# Altium footprint library footprints.PCBLIB: 194 footprints (part 11 of 13)
Each footprint in its own frame and in the unit in brackets; x right, y up, seen from the top. Pads: shape width x height; smd on the part's side, far side on the other; paste and mask are expansions set on the pad; w line width, h text height; cw(c..) or ccw(c..) is an arc to the next point about the centre after c.
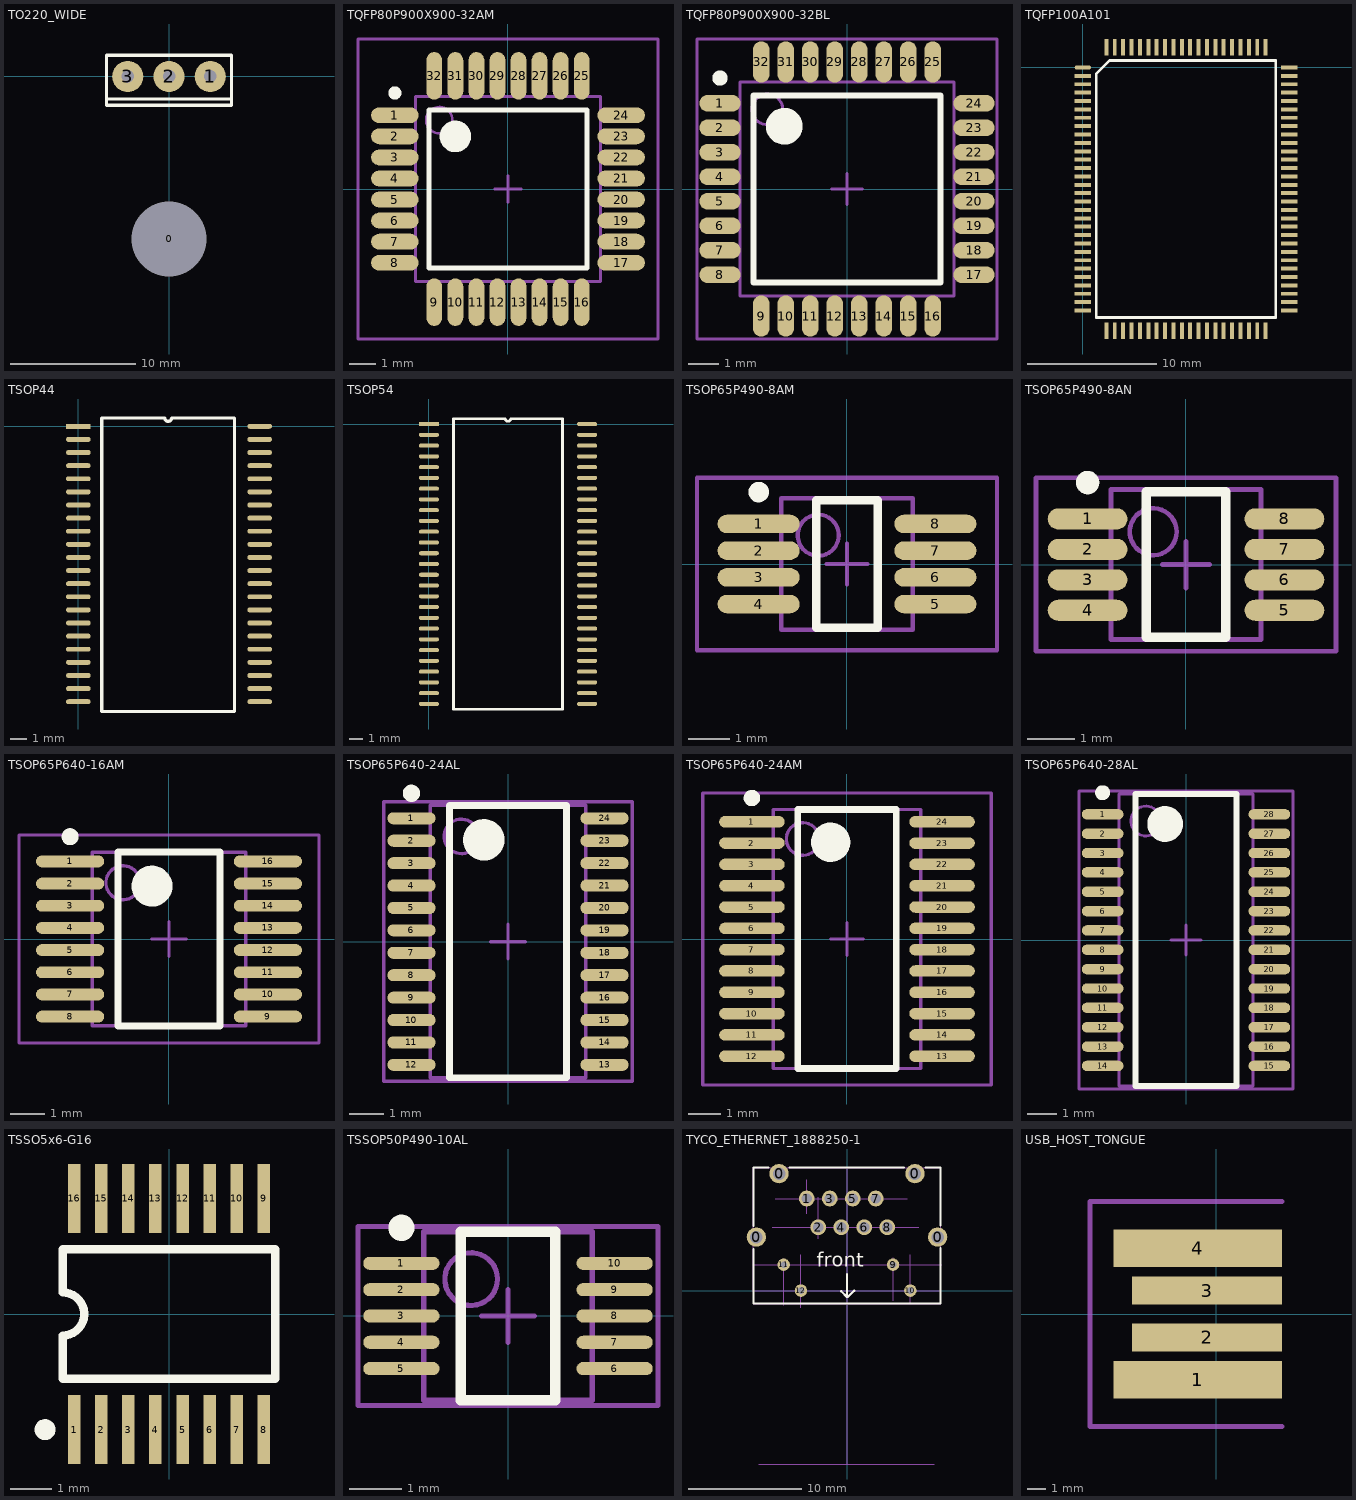
[diagram p10: the footprints below, top view; thin cyan lines are the x and y axes]

## TO220_WIDE [mm]
pads (4):
  round 1 hole 6: 0(0,-13)
  round 2.5 hole 1: 1(3.3,0) 2(0,0) 3(-3.3,0)
Top Overlay:
  lines w0.254: -5,1.7 5,1.7 5,-1.8 ; -5,1.7 -5,-1.8 5,-1.8 ; -5,1.7 -5,-2.3 5,-2.3 5,-1.8
Bottom Overlay:
  circle w0.254: c0,-13 r4.243
  lines w1: -6,-21 6,-21 6,3 -6,3 -6,-21

## TQFP80P900X900-32AM [mm] "Thin QFP, 32-Leads, Body 7x7mm, Pitch 0.8mm, IPC Low Density"
height 1.6
pads (32):
  oval 1.8x0.6 smd: 1(-4.3,2.8) 2(-4.3,2) 3(-4.3,1.2) 4(-4.3,0.4) 5(-4.3,-0.4) 6(-4.3,-1.2) 7(-4.3,-2) 8(-4.3,-2.8) 17(4.3,-2.8) 18(4.3,-2) 19(4.3,-1.2) 20(4.3,-0.4) 21(4.3,0.4) 22(4.3,1.2) 23(4.3,2) 24(4.3,2.8)
  oval 0.6x1.8 smd: 9(-2.8,-4.3) 10(-2,-4.3) 11(-1.2,-4.3) 12(-0.4,-4.3) 13(0.4,-4.3) 14(1.2,-4.3) 15(2,-4.3) 16(2.8,-4.3) 25(2.8,4.3) 26(2,4.3) 27(1.2,4.3) 28(0.4,4.3) 29(-0.4,4.3) 30(-1.2,4.3) 31(-2,4.3) 32(-2.8,4.3)
Top Overlay:
  circle w0.25: c-4.3,3.65 r0.125
  circle w0.6: c-2,2 r0.3
  lines w0.2: -3,-3 -3,3 3,3 3,-3 -3,-3
Mechanical 13:
  circle w0.1: c-2.615,2.615 r0.5
  lines w0.1: -3.515,-3.515 -3.515,3.515 3.515,3.515 3.515,-3.515 -3.515,-3.515
Mechanical 15:
  lines w0.1: -0.5,0 0.5,0 ; 0,-0.5 0,0.5 ; -5.7,-5.7 -5.7,5.7 5.7,5.7 5.7,-5.7 -5.7,-5.7
3D body: height 1.6, standoff 0, extent -3.515,-3.515 3.515,3.515

## TQFP80P900X900-32BL [mm] "Thin QFP, 32-Leads, Body 7x7mm, Pitch 0.8mm, IPC High Density"
height 1.2
pads (32):
  oval 1.35x0.55 smd: 1(-4.15,2.8) 2(-4.15,2) 3(-4.15,1.2) 4(-4.15,0.4) 5(-4.15,-0.4) 6(-4.15,-1.2) 7(-4.15,-2) 8(-4.15,-2.8) 17(4.15,-2.8) 18(4.15,-2) 19(4.15,-1.2) 20(4.15,-0.4) 21(4.15,0.4) 22(4.15,1.2) 23(4.15,2) 24(4.15,2.8)
  oval 0.55x1.35 smd: 9(-2.8,-4.15) 10(-2,-4.15) 11(-1.2,-4.15) 12(-0.4,-4.15) 13(0.4,-4.15) 14(1.2,-4.15) 15(2,-4.15) 16(2.8,-4.15) 25(2.8,4.15) 26(2,4.15) 27(1.2,4.15) 28(0.4,4.15) 29(-0.4,4.15) 30(-1.2,4.15) 31(-2,4.15) 32(-2.8,4.15)
Top Overlay:
  circle w0.6: c-2.05,2.05 r0.3
  circle w0.25: c-4.15,3.625 r0.125
  lines w0.2: -3.05,-3.05 3.05,-3.05 3.05,3.05 -3.05,3.05 -3.05,-3.05
Mechanical 13:
  circle w0.1: c-2.6,2.6 r0.5
  lines w0.1: -3.5,-3.5 3.5,-3.5 3.5,3.5 -3.5,3.5 -3.5,-3.5
Mechanical 15:
  lines w0.1: -0.5,0 0.5,0 ; 0,-0.5 0,0.5 ; -4.9,-4.9 4.9,-4.9 4.9,4.9 -4.9,4.9 -4.9,-4.9
3D body: height 1.2, standoff 0, extent -3.5,-3.5 3.5,3.5

## TQFP100A101 [mil]
pads (100):
  oval 50x12 smd: 1(0,0)
  rect 50x12 smd: 2(0,-25.59) 3(0,-51.18) 4(0,-76.77) 5(0,-102.36) 6(0,-127.95) 7(0,-153.54) 8(0,-179.13) 9(0,-204.72) 10(0,-230.32) 11(0,-255.91) 12(0,-281.5) 13(0,-307.09) 14(0,-332.68) 15(0,-358.27) 16(0,-383.86) 17(0,-409.45) 18(0,-435.04) 19(0,-460.63) 20(0,-486.22) 21(0,-511.81) 22(0,-537.4) 23(0,-562.99) 24(0,-588.58) 25(0,-614.17) 26(0,-639.76) 27(0,-665.36) 28(0,-690.95) 29(0,-716.54) 30(0,-742.13) 51(629.92,-742.13) 52(629.92,-716.54) 53(629.92,-690.95) 54(629.92,-665.36) 55(629.92,-639.76) 56(629.92,-614.17) 57(629.92,-588.58) 58(629.92,-562.99) 59(629.92,-537.4) 60(629.92,-511.81) 61(629.92,-486.22) 62(629.92,-460.63) 63(629.92,-435.04) 64(629.92,-409.45) 65(629.92,-383.86) 66(629.92,-358.27) 67(629.92,-332.68) 68(629.92,-307.09) 69(629.92,-281.5) 70(629.92,-255.91) 71(629.92,-230.32) 72(629.92,-204.72) 73(629.86,-178.61) 74(629.92,-153.54) 75(629.92,-127.95) 76(629.92,-102.36) 77(629.92,-76.77) 78(629.92,-51.18) 79(629.92,-25.59) 80(629.92,0)
  rect 12x50 smd: 31(71.85,-804.14) 32(97.44,-804.14) 33(123.03,-804.14) 34(148.62,-804.14) 35(174.21,-804.14) 36(199.8,-804.14) 37(225.39,-804.14) 38(250.98,-804.14) 39(276.58,-804.14) 40(302.17,-804.14) 41(327.76,-804.14) 42(353.35,-804.14) 43(378.94,-804.14) 44(404.53,-804.14) 45(430.12,-804.14) 46(455.71,-804.14) 47(481.3,-804.14) 48(506.89,-804.14) 49(532.48,-804.14) 50(558.07,-804.14) 81(558.07,62.01) 82(532.48,62.01) 83(506.89,62.01) 84(481.3,62.01) 85(455.71,62.01) 86(430.12,62.01) 87(404.53,62.01) 88(378.94,62.01) 89(353.35,62.01) 90(327.76,62.01) 91(302.17,62.01) 92(276.58,62.01) 93(250.98,62.01) 94(225.39,62.01) 95(199.8,62.01) 96(174.21,62.01) 97(148.62,62.01) 98(123.03,62.01) 99(97.44,62.01) 100(71.85,62.01)
Top Overlay:
  lines w7.87: 40.75,-763.39 589.17,-763.39 589.17,21.26 81.5,21.26 40.75,-19.49 40.75,-763.39

## TSOP44 [mm]
pads (44):
  rect 1.5x0.3 smd: 1(0,0)
  oval 1.5x0.3 smd: 2(0,-0.8) 3(0,-1.6) 4(0,-2.4) 5(0,-3.2) 6(0,-4) 7(0,-4.8) 8(0,-5.6) 9(0,-6.4) 10(0,-7.2) 11(0,-8) 12(0,-8.8) 13(0,-9.6) 14(0,-10.4) 15(0,-11.2) 16(0,-12) 17(0,-12.8) 18(0,-13.6) 19(0,-14.4) 20(0,-15.2) 21(0,-16) 22(0,-16.8) 23(11.06,-16.8) 24(11.06,-16) 25(11.06,-15.2) 26(11.06,-14.4) 27(11.06,-13.6) 28(11.06,-12.8) 29(11.06,-12) 30(11.06,-11.2) 31(11.06,-10.4) 32(11.06,-9.6) 33(11.06,-8.8) 34(11.06,-8) 35(11.06,-7.2) 36(11.06,-6.4) 37(11.06,-5.6) 38(11.06,-4.8) 39(11.06,-4) 40(11.06,-3.2) 41(11.06,-2.4) 42(11.06,-1.6) 43(11.06,-0.8) 44(11.06,0)
Top Overlay:
  lines w0.2: 1.435,-17.4 9.525,-17.4 9.525,0.5 5.68,0.5 cw(c5.48,0.5) 5.28,0.5 1.435,0.5 1.435,-17.4

## TSOP54 [mm]
pads (54):
  rect 1.5x0.3 smd: 1(0,0)
  oval 1.5x0.3 smd: 2(0,-0.8) 3(0,-1.6) 4(0,-2.4) 5(0,-3.2) 6(0,-4) 7(0,-4.8) 8(0,-5.6) 9(0,-6.4) 10(0,-7.2) 11(0,-8) 12(0,-8.8) 13(0,-9.6) 14(0,-10.4) 15(0,-11.2) 16(0,-12) 17(0,-12.8) 18(0,-13.6) 19(0,-14.4) 20(0,-15.2) 21(0,-16) 22(0,-16.8) 23(0,-17.6) 24(0,-18.4) 25(0,-19.2) 26(0,-20) 27(0,-20.8) 28(11.76,-20.8) 29(11.76,-20) 30(11.76,-19.2) 31(11.76,-18.4) 32(11.76,-17.6) 33(11.76,-16.8) 34(11.76,-16) 35(11.76,-15.2) 36(11.76,-14.4) 37(11.76,-13.6) 38(11.76,-12.8) 39(11.76,-12) 40(11.76,-11.2) 41(11.76,-10.4) 42(11.76,-9.6) 43(11.76,-8.8) 44(11.76,-8) 45(11.76,-7.2) 46(11.76,-6.4) 47(11.76,-5.6) 48(11.76,-4.8) 49(11.76,-4) 50(11.76,-3.2) 51(11.76,-2.4) 52(11.76,-1.6) 53(11.76,-0.8) 54(11.76,0)
Top Overlay:
  lines w0.2: 1.835,-21.2 1.835,0.4 5.68,0.4 ccw(c5.88,0.4) 6.08,0.4 9.925,0.4 9.925,-21.2 1.835,-21.2

## TSOP65P490-8AM [mm] "TSOP, 8-Leads, Body 3x3mm, Pitch 0.65mm, IPC Low Density"
height 1.1
pads (8):
  oval 2x0.45 smd: 1(-2.15,0.975) 2(-2.15,0.325) 3(-2.15,-0.325) 4(-2.15,-0.975) 5(2.15,-0.975) 6(2.15,-0.325) 7(2.15,0.325) 8(2.15,0.975)
Top Overlay:
  circle w0.25: c-2.15,1.75 r0.125
  lines w0.2: -0.75,-1.55 0.75,-1.55 0.75,1.55 -0.75,1.55 -0.75,-1.55
Mechanical 13:
  circle w0.1: c-0.7,0.7 r0.5
  lines w0.1: -1.6,-1.6 1.6,-1.6 1.6,1.6 -1.6,1.6 -1.6,-1.6
Mechanical 15:
  lines w0.1: -0.5,0 0.5,0 ; 0,-0.5 0,0.5 ; -3.65,-2.1 3.65,-2.1 3.65,2.1 -3.65,2.1 -3.65,-2.1
3D body: height 1.1, standoff 0, extent -1.6,-1.6 1.6,1.6

## TSOP65P490-8AN [mm] "TSOP, 8-Leads, Body 3x3mm, Pitch 0.65mm, IPC Medium Density"
height 1.1
pads (8):
  oval 1.7x0.45 smd: 1(-2.1,0.975) 2(-2.1,0.325) 3(-2.1,-0.325) 4(-2.1,-0.975) 5(2.1,-0.975) 6(2.1,-0.325) 7(2.1,0.325) 8(2.1,0.975)
Top Overlay:
  circle w0.25: c-2.1,1.75 r0.125
  lines w0.2: -0.85,-1.55 0.85,-1.55 0.85,1.55 -0.85,1.55 -0.85,-1.55
Mechanical 13:
  circle w0.1: c-0.7,0.7 r0.5
  lines w0.1: -1.6,-1.6 1.6,-1.6 1.6,1.6 -1.6,1.6 -1.6,-1.6
Mechanical 15:
  lines w0.1: -0.5,0 0.5,0 ; 0,-0.5 0,0.5 ; -3.2,-1.85 3.2,-1.85 3.2,1.85 -3.2,1.85 -3.2,-1.85
3D body: height 1.1, standoff 0, extent -1.6,-1.6 1.6,1.6

## TSOP65P640-16AM [mm] "TSOP, 16-Leads, Body 5x4.4mm, Pitch 0.65mm, IPC Low Density"
height 1.1
pads (16):
  oval 2x0.35 smd: 1(-2.9,2.275) 2(-2.9,1.625) 3(-2.9,0.975) 4(-2.9,0.325) 5(-2.9,-0.325) 6(-2.9,-0.975) 7(-2.9,-1.625) 8(-2.9,-2.275) 9(2.9,-2.275) 10(2.9,-1.625) 11(2.9,-0.975) 12(2.9,-0.325) 13(2.9,0.325) 14(2.9,0.975) 15(2.9,1.625) 16(2.9,2.275)
Top Overlay:
  circle w0.6: c-0.5,1.55 r0.3
  circle w0.25: c-2.9,3 r0.125
  lines w0.2: -1.5,-2.55 1.5,-2.55 1.5,2.55 -1.5,2.55 -1.5,-2.55
Mechanical 13:
  circle w0.1: c-1.35,1.65 r0.5
  lines w0.1: -2.25,-2.55 2.25,-2.55 2.25,2.55 -2.25,2.55 -2.25,-2.55
Mechanical 15:
  lines w0.1: -0.5,0 0.5,0 ; 0,-0.5 0,0.5 ; -4.4,-3.05 4.4,-3.05 4.4,3.05 -4.4,3.05 -4.4,-3.05
3D body: height 1.1, standoff 0, extent -2.25,-2.55 2.25,2.55

## TSOP65P640-24AL [mm] "TSOP, 24-Leads, Body 7.8x4.4mm, Pitch 0.65mm, IPC High Density"
height 1.1
pads (24):
  oval 1.4x0.35 smd: 1(-2.8,3.575) 2(-2.8,2.925) 3(-2.8,2.275) 4(-2.8,1.625) 5(-2.8,0.975) 6(-2.8,0.325) 7(-2.8,-0.325) 8(-2.8,-0.975) 9(-2.8,-1.625) 10(-2.8,-2.275) 11(-2.8,-2.925) 12(-2.8,-3.575) 13(2.8,-3.575) 14(2.8,-2.925) 15(2.8,-2.275) 16(2.8,-1.625) 17(2.8,-0.975) 18(2.8,-0.325) 19(2.8,0.325) 20(2.8,0.975) 21(2.8,1.625) 22(2.8,2.275) 23(2.8,2.925) 24(2.8,3.575)
Top Overlay:
  circle w0.25: c-2.8,4.3 r0.125
  circle w0.6: c-0.7,2.95 r0.3
  lines w0.2: -1.7,-3.95 -1.7,3.95 1.7,3.95 1.7,-3.95 -1.7,-3.95
Mechanical 13:
  circle w0.1: c-1.35,3.05 r0.5
  lines w0.1: -2.25,-3.95 -2.25,3.95 2.25,3.95 2.25,-3.95 -2.25,-3.95
Mechanical 15:
  lines w0.1: -0.5,0 0.5,0 ; 0,-0.5 0,0.5 ; -3.6,-4.05 -3.6,4.05 3.6,4.05 3.6,-4.05 -3.6,-4.05
3D body: height 1.1, standoff 0, extent -2.25,-3.95 2.25,3.95

## TSOP65P640-24AM [mm] "TSOP, 24-Leads, Body 7.8x4.4mm, Pitch 0.65mm, IPC Low Density"
height 1.1
pads (24):
  oval 2x0.35 smd: 1(-2.9,3.575) 2(-2.9,2.925) 3(-2.9,2.275) 4(-2.9,1.625) 5(-2.9,0.975) 6(-2.9,0.325) 7(-2.9,-0.325) 8(-2.9,-0.975) 9(-2.9,-1.625) 10(-2.9,-2.275) 11(-2.9,-2.925) 12(-2.9,-3.575) 13(2.9,-3.575) 14(2.9,-2.925) 15(2.9,-2.275) 16(2.9,-1.625) 17(2.9,-0.975) 18(2.9,-0.325) 19(2.9,0.325) 20(2.9,0.975) 21(2.9,1.625) 22(2.9,2.275) 23(2.9,2.925) 24(2.9,3.575)
Top Overlay:
  circle w0.25: c-2.9,4.3 r0.125
  circle w0.6: c-0.5,2.95 r0.3
  lines w0.2: -1.5,-3.95 -1.5,3.95 1.5,3.95 1.5,-3.95 -1.5,-3.95
Mechanical 13:
  circle w0.1: c-1.35,3.05 r0.5
  lines w0.1: -2.25,-3.95 -2.25,3.95 2.25,3.95 2.25,-3.95 -2.25,-3.95
Mechanical 15:
  lines w0.1: -0.5,0 0.5,0 ; 0,-0.5 0,0.5 ; -4.4,-4.45 -4.4,4.45 4.4,4.45 4.4,-4.45 -4.4,-4.45
3D body: height 1.1, standoff 0, extent -2.25,-3.95 2.25,3.95

## TSOP65P640-28AL [mm] "TSOP, 28-Leads, Body 9.7x4.4mm, Pitch 0.65mm, IPC High Density"
height 1.1
pads (28):
  oval 1.4x0.35 smd: 1(-2.8,4.225) 2(-2.8,3.575) 3(-2.8,2.925) 4(-2.8,2.275) 5(-2.8,1.625) 6(-2.8,0.975) 7(-2.8,0.325) 8(-2.8,-0.325) 9(-2.8,-0.975) 10(-2.8,-1.625) 11(-2.8,-2.275) 12(-2.8,-2.925) 13(-2.8,-3.575) 14(-2.8,-4.225) 15(2.8,-4.225) 16(2.8,-3.575) 17(2.8,-2.925) 18(2.8,-2.275) 19(2.8,-1.625) 20(2.8,-0.975) 21(2.8,-0.325) 22(2.8,0.325) 23(2.8,0.975) 24(2.8,1.625) 25(2.8,2.275) 26(2.8,2.925) 27(2.8,3.575) 28(2.8,4.225)
Top Overlay:
  circle w0.25: c-2.8,4.95 r0.125
  circle w0.6: c-0.7,3.9 r0.3
  lines w0.2: -1.7,-4.9 -1.7,4.9 1.7,4.9 1.7,-4.9 -1.7,-4.9
Mechanical 13:
  circle w0.1: c-1.35,4 r0.5
  lines w0.1: -2.25,-4.9 -2.25,4.9 2.25,4.9 2.25,-4.9 -2.25,-4.9
Mechanical 15:
  lines w0.1: -0.5,0 0.5,0 ; 0,-0.5 0,0.5 ; -3.6,-5 -3.6,5 3.6,5 3.6,-5 -3.6,-5
3D body: height 1.1, standoff 0, extent -2.25,-4.9 2.25,4.9

## TSSO5x6-G16 [mm]
pads (16):
  rect 0.3x1.65 smd: 1(-2.275,-2.775) 2(-1.625,-2.775) 3(-0.975,-2.775) 4(-0.325,-2.775) 5(0.325,-2.775) 6(0.975,-2.775) 7(1.625,-2.775) 8(2.275,-2.775) 9(2.275,2.775) 10(1.625,2.775) 11(0.975,2.775) 12(0.325,2.775) 13(-0.325,2.775) 14(-0.975,2.775) 15(-1.625,2.775) 16(-2.275,2.775)
Top Overlay:
  circle w0.25: c-2.975,-2.775 r0.125
  lines w0.2: -2.55,-1.55 -2.55,-0.517 ccw(c-2.55,0) -2.55,0.517 -2.55,1.55 2.55,1.55 2.55,-1.55 -2.55,-1.55

## TSSOP50P490-10AL [mm] "TSSOP, 10-Leads, Body 3x3mm, Pitch 0.5mm, IPC High Density"
height 1.1
pads (10):
  oval 1.45x0.25 smd: 1(-2.025,1) 2(-2.025,0.5) 3(-2.025,0) 4(-2.025,-0.5) 5(-2.025,-1) 6(2.025,-1) 7(2.025,-0.5) 8(2.025,0) 9(2.025,0.5) 10(2.025,1)
Top Overlay:
  circle w0.25: c-2.025,1.675 r0.125
  lines w0.2: -0.9,-1.6 -0.9,1.6 0.9,1.6 0.9,-1.6 -0.9,-1.6
Mechanical 13:
  circle w0.1: c-0.7,0.7 r0.5
  lines w0.1: -1.6,-1.6 -1.6,1.6 1.6,1.6 1.6,-1.6 -1.6,-1.6
Mechanical 15:
  lines w0.1: -0.5,0 0.5,0 ; 0,-0.5 0,0.5 ; -2.85,-1.7 -2.85,1.7 2.85,1.7 2.85,-1.7 -2.85,-1.7
3D body: height 1.1, standoff 0, extent -1.6,-1.6 1.6,1.6

## TYCO_ETHERNET_1888250-1 [mm]
pads (16):
  round 1.7 hole 1.1: 0(-8,4.726) 0(-6,10.326) 0(6,10.326) 0(8,4.726)
  round 1.4 hole 0.9: 1(-3.556,8.128) 2(-2.54,5.588) 3(-1.524,8.128) 4(-0.508,5.588) 5(0.508,8.128) 6(1.524,5.588) 7(2.54,8.128) 8(3.556,5.588)
  round 1.1 hole 0.6: 9(4.064,2.286) 10(5.588,0) 11(-5.588,2.286) 12(-4.064,0)
Top Overlay:
  lines w0.2: -8.255,-0.762 -8.255,3.683 ; -8.255,-0.699 -8.255,-1.143 8.255,-1.143 8.255,3.746 ; -8.255,5.715 -8.255,10.858 -6.921,10.858 ; -5.08,10.858 5.016,10.858 ; -0.508,-0.064 0,-0.572 ; 0,1.46 0,-0.572 ; 0.635,0 0.064,-0.572 0,-0.572 ; 6.921,10.858 8.255,10.858 8.255,5.779
  text "front" at -2.667,2.095 h1.27
Mechanical 1:
  lines w0.01: -7.81,-15.303 7.683,-15.303 ; 0,-15.303 0,10.858
  text "front panel" at 0.953,-14.986 h0.6
Mechanical 13:
  lines w0.01: -8.382,0 -0.254,0 8.255,0 8.255,10.858 -8.255,10.858 -8.255,0 ; -8.382,2.286 0.254,2.286 ; -8.255,-1.143 8.255,-1.143 ; -6.604,5.588 4.826,5.588 ; -6.35,8.128 5.334,8.128 ; -5.588,-1.27 -5.588,2.794 ; -4.064,-1.524 -4.064,0.127 ; -4.064,0 -4.064,3.175 ; -3.556,6.794 -3.556,8.572 ; -3.556,7.239 -3.556,9.779 ; -3.556,7.62 -3.556,8.826 -3.556,8.128 ; -2.54,4.572 -2.54,8.255 ; 0,-1.524 0,10.858 ; 0,2.286 8.382,2.286 ; 4.064,-0.889 4.064,2.921 ; 4.572,5.588 6.35,5.588 ; 5.588,-1.016 5.588,0.127 ; 5.588,0 5.588,3.175

## USB_HOST_TONGUE [mm]
pads (4):
  rect 9x2 smd: 1(-1,-3.5) 4(-1,3.5)
  rect 8x1.5 smd: 2(-0.5,-1.25) 3(-0.5,1.25)
Top Solder:
  rectangle: -6.75,-6 3.5,6
Mechanical 1:
  lines w0.254: -0.25,6 3.5,6 ; 0,6 -6.75,6 -6.75,-6 0,-6 3.5,-6